# EAGLE library part VARITRONIX_2ND_GEN (library Next_Gen_Meter_Misc)
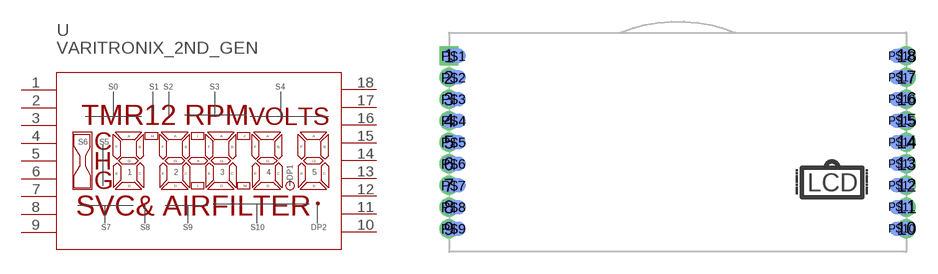
[diagram p0: symbol with the pads of VARITRONIX_2ND_GEN; footprint VARITRONIX_2ND_GEN]

Designator prefix -

## VARITRONIX_2ND_GEN  [VARITRONIX_2ND_GEN]
1  P$1
2  P$2
3  P$3
4  P$4
5  P$5
6  P$6
7  P$7
8  P$8
9  P$9
10  P$10
11  P$11
12  P$12
13  P$13
14  P$14
15  P$15
16  P$16
17  P$17
18  P$18

## Footprint VARITRONIX_2ND_GEN (pad centres in mm)
drill 0.813 pad 1 square: 1 -15.903,6
drill 0.813 pad 1 round: 2 -15.903,4.5; 3 -15.903,3; 4 -15.903,1.5; 5 -15.903,0; 6 -15.903,-1.5; 7 -15.903,-3; 8 -15.903,-4.5; 9 -15.903,-6; 10 15.903,-6; 11 15.903,-4.5; 12 15.903,-3; 13 15.903,-1.5; 14 15.903,0; 15 15.903,1.5; 16 15.903,3; 17 15.903,4.5; 18 15.903,6
smd 1.668 x 1 bottom: P$1 -15.569,6; P$2 -15.569,4.5; P$3 -15.569,3; P$4 -15.569,1.5; P$5 -15.569,0; P$6 -15.569,-1.5; P$7 -15.569,-3; P$8 -15.569,-4.5; P$9 -15.569,-6; P$10 15.569,-6; P$11 15.569,-4.5; P$12 15.569,-3; P$13 15.569,-1.5; P$14 15.569,0; P$15 15.569,1.5; P$16 15.569,3; P$17 15.569,4.5; P$18 15.569,6